# Altium schematic symbol library Coin_lib.SchLib: 4 symbols
Pins are listed as number, name and electrical type; pins without a type are passive.

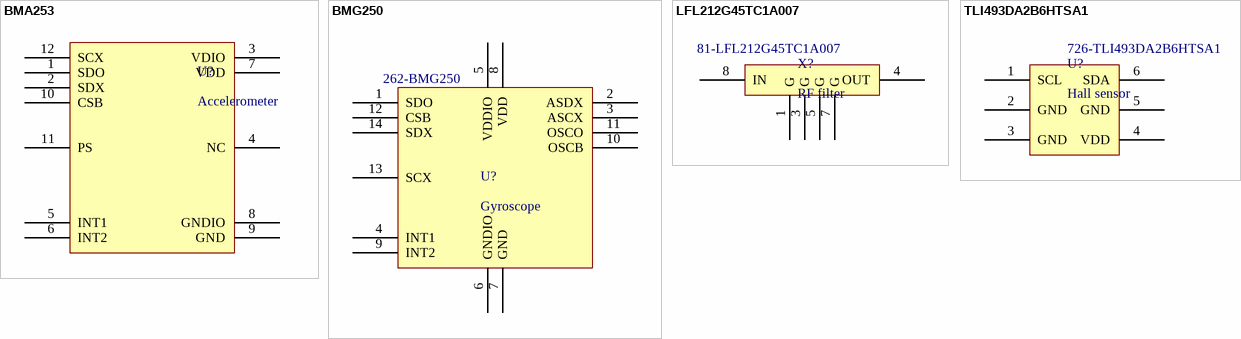
[diagram p0: symbols BMA253 to TLI493DA2B6HTSA1]

## BMA253
designator U?, comment Accelerometer
footprint LGA12
pins: 1 SDO, 2 SDX, 3 VDIO, 4 NC, 5 INT1, 6 INT2, 7 VDD, 8 GNDIO, 9 GND, 10 CSB, 11 PS, 12 SCX

## BMG250
designator U?, comment Gyroscope  Supplier Part Number 1: 262-BMG250
Supplier 1: Mouser
footprint LGA14
pins: 1 SDO, 2 ASDX, 3 ASCX, 4 INT1, 5 VDDIO, 6 GNDIO, 7 GND, 8 VDD, 9 INT2, 10 OSCB, 11 OSCO, 12 CSB, 13 SCX, 14 SDX

## LFL212G45TC1A007
designator X?, comment RF filter  Supplier Part Number 1: 81-LFL212G45TC1A007
Supplier 1: Mouser
footprint LFL21_TC (Filter)
pins: 1 G, 3 G, 4 OUT, 5 G, 7 G, 8 IN

## TLI493DA2B6HTSA1
designator U?, comment Hall sensor  Supplier Part Number 1: 726-TLI493DA2B6HTSA1
Supplier 1: Mouser
footprint TSOP6
pins: 1 SCL, 2 GND, 3 GND, 4 VDD, 5 GND, 6 SDA